# Altium schematic symbol library XTAL.SchLib: 1 symbol
Pins are listed as number, name and electrical type; pins without a type are passive.

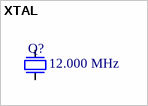
[diagram p0: symbol XTAL]

## XTAL
designator Q?  value 12.000 MHz  (hidden comment: *)
XTAL; Part No.: *; Vendor: *; Price Est.: *; Manufacturer: *
footprint CS10 (Citizen SMT Crystal 3.5mm x 6mm)
footprint ABMM1 (Abracon ABMM1 Ceramic SMT Crystal (Connect 1 to 3) 7.2mm x 5.2mm)
footprint ABMM2 (Abracon ABMM2 Ceramic SMT Crystal (Connect 1 to 3) 3.6mm x 6mm); pin to pad 2>3
footprint ABM7 (Abracon ABM7 Ceramic SMT Crystal 6.0mm x 3.3mm)
footprint ABS10 (Abracon ABS10 Ceramic SMT Crystal 4.9mm x 1.8mm)
footprint CS20 (Citizen CS20 Xtal)
footprint HC49 (Standard HC49 TH Xtal)
pins: 1, 2